# Altium integrated library Actel ProASIC3E.IntLib: 182 symbols (part 2 of 46)
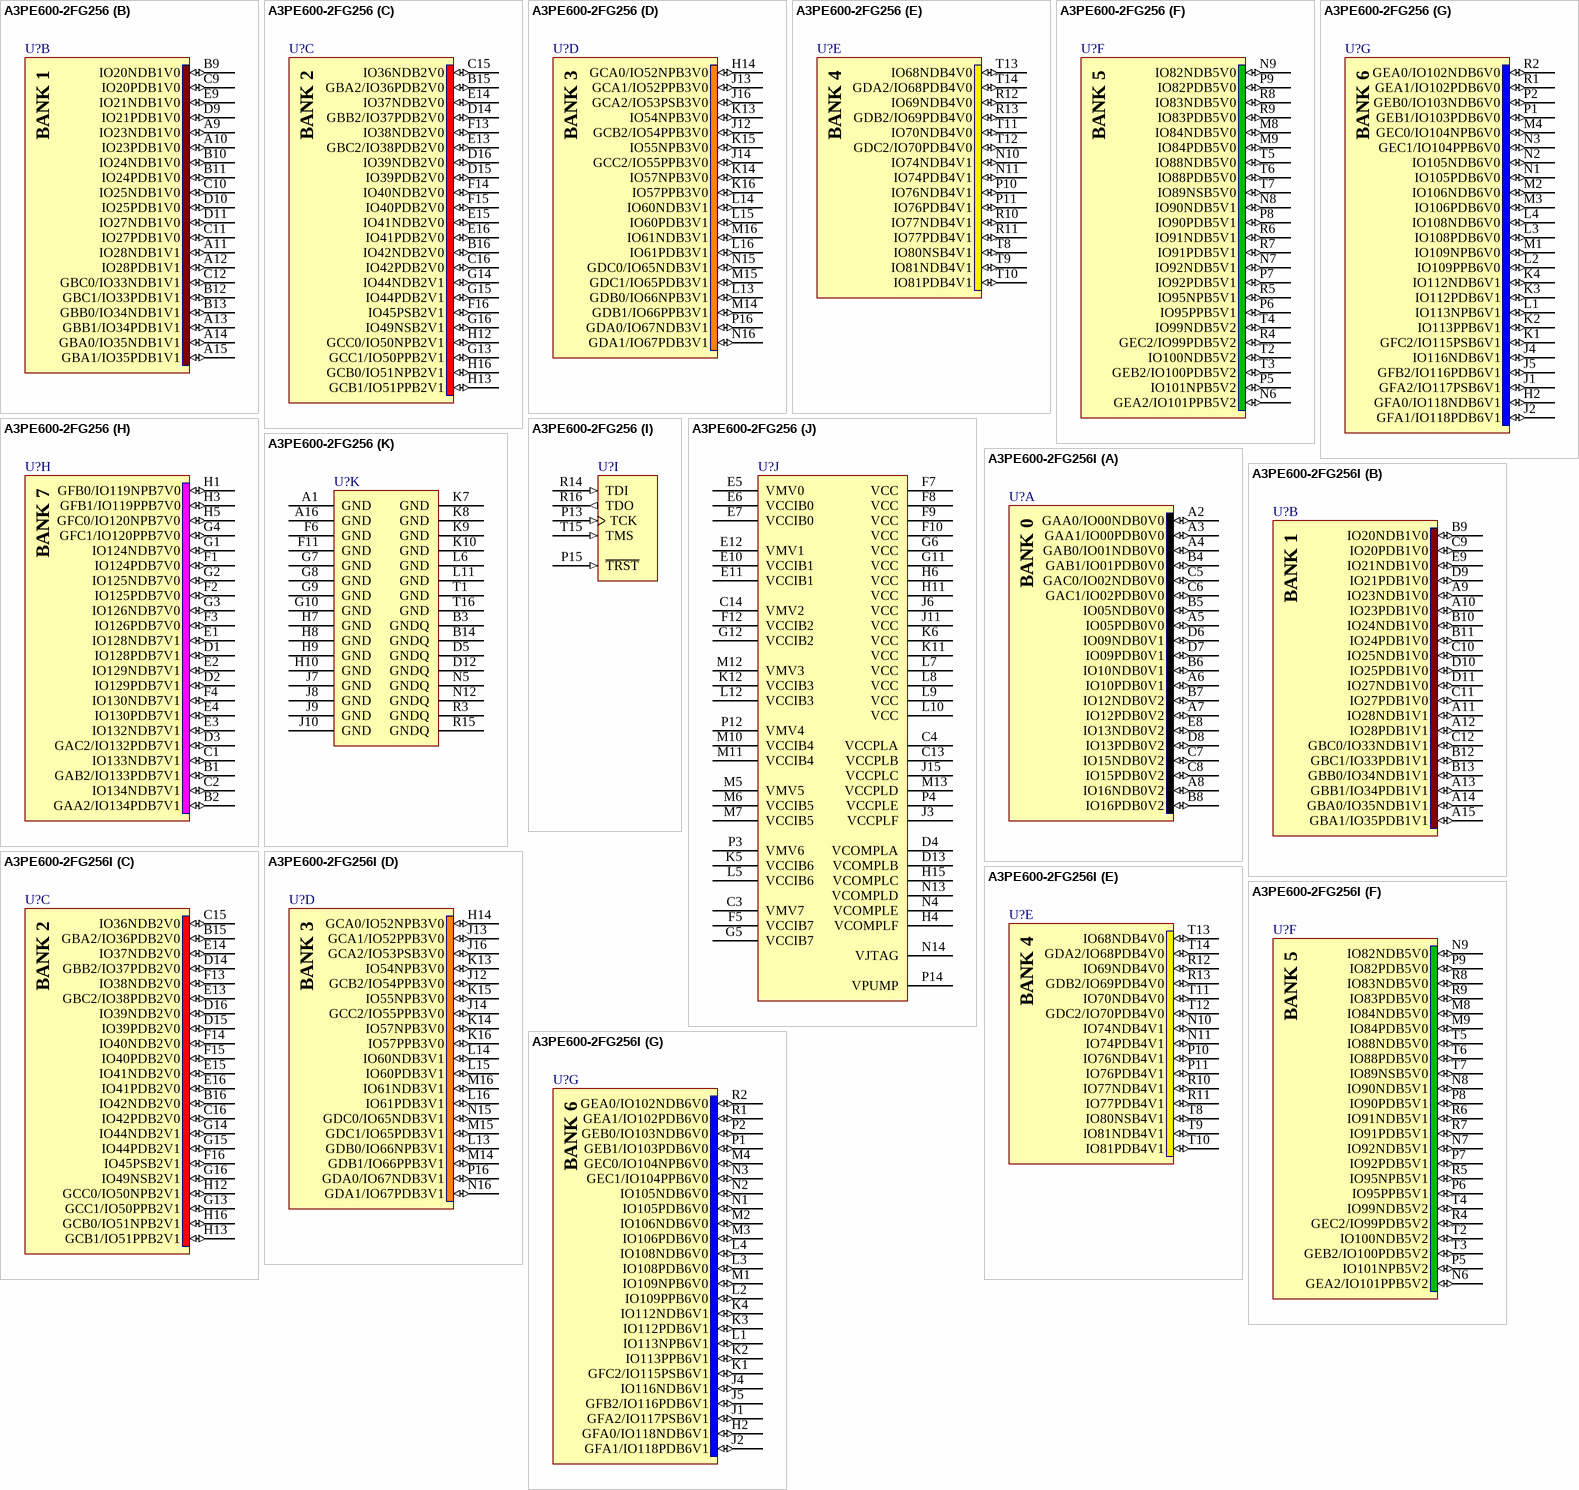
[diagram p106: symbols A3PE600-2FG256 to A3PE600-2FG256I]

## A3PE600-2FG256
designator U?
ProASIC3E Flash Family FPGA, 165 User IOs, 600K System Gates, 108 Kbits RAM, 1 Kbit FlashROM, 6 PLLs, 256-Ball FBGA, Commercial Grade; Published: 4-Mar-2005; LatestRevisionDate: 13-Apr-2006; LatestRevisionNote: IPC-7351 Footprint Added.; DatasheetVersion: ver1.1, Feb-2009; PackageVersion: v11.0, Feb-2009; PackageReference: FG256; Publisher: Altium Limited; PackageDescription: 256-Ball Fine Pitch Plastic Ball Grid Array (FG256); Code_JEDEC: MO-192-DAF-1; ComponentLink1Description: Manufacturer Link; ComponentLink1URL: http://www.actel.com/products/pa3/; ComponentLink2Description: Datasheet; ComponentLink2URL: http://www.actel.com/documents/PA3E_DS.pdf; ComponentLink3Description: Packaging Specification; ComponentLink3URL: http://www.actel.com/documents/PckgMechDrwngs.pdf
footprint FG256 (BGA, 256-Leads, Body 17x17mm, Pitch 1mm)
3D model A3PE600-FG256 (256-Ball Fine Pitch Plastic Ball Grid Array (FG256))
signal-integrity model A3PE600_FG256 (ProASIC3E)
part A pins: A2 GAA0/IO00NDB0V0 (io), A3 GAA1/IO00PDB0V0 (io), A4 GAB0/IO01NDB0V0 (io), A5 IO05PDB0V0 (io), A6 IO10PDB0V1 (io), A7 IO12PDB0V2 (io), A8 IO16NDB0V2 (io), B4 GAB1/IO01PDB0V0 (io), B5 IO05NDB0V0 (io), B6 IO10NDB0V1 (io), B7 IO12NDB0V2 (io), B8 IO16PDB0V2 (io), C5 GAC0/IO02NDB0V0 (io), C6 GAC1/IO02PDB0V0 (io), C7 IO15NDB0V2 (io), C8 IO15PDB0V2 (io), D6 IO09NDB0V1 (io), D7 IO09PDB0V1 (io), D8 IO13PDB0V2 (io), E8 IO13NDB0V2 (io)
part B pins: A9 IO23NDB1V0 (io), A10 IO23PDB1V0 (io), A11 IO28NDB1V1 (io), A12 IO28PDB1V1 (io), A13 GBB1/IO34PDB1V1 (io), A14 GBA0/IO35NDB1V1 (io), A15 GBA1/IO35PDB1V1 (io), B9 IO20NDB1V0 (io), B10 IO24NDB1V0 (io), B11 IO24PDB1V0 (io), B12 GBC1/IO33PDB1V1 (io), B13 GBB0/IO34NDB1V1 (io), C9 IO20PDB1V0 (io), C10 IO25NDB1V0 (io), C11 IO27PDB1V0 (io), C12 GBC0/IO33NDB1V1 (io), D9 IO21PDB1V0 (io), D10 IO25PDB1V0 (io), D11 IO27NDB1V0 (io), E9 IO21NDB1V0 (io)
part C pins: B15 GBA2/IO36PDB2V0 (io), B16 IO42NDB2V0 (io), C15 IO36NDB2V0 (io), C16 IO42PDB2V0 (io), D14 GBB2/IO37PDB2V0 (io), D15 IO39PDB2V0 (io), D16 IO39NDB2V0 (io), E13 GBC2/IO38PDB2V0 (io), E14 IO37NDB2V0 (io), E15 IO41NDB2V0 (io), E16 IO41PDB2V0 (io), F13 IO38NDB2V0 (io), F14 IO40NDB2V0 (io), F15 IO40PDB2V0 (io), F16 IO45PSB2V1 (io), G13 GCC1/IO50PPB2V1 (io), G14 IO44NDB2V1 (io), G15 IO44PDB2V1 (io), G16 IO49NSB2V1 (io), H12 GCC0/IO50NPB2V1 (io), H13 GCB1/IO51PPB2V1 (io), H16 GCB0/IO51NPB2V1 (io)
part D pins: H14 GCA0/IO52NPB3V0 (io), J12 GCB2/IO54PPB3V0 (io), J13 GCA1/IO52PPB3V0 (io), J14 GCC2/IO55PPB3V0 (io), J16 GCA2/IO53PSB3V0 (io), K13 IO54NPB3V0 (io), K14 IO57NPB3V0 (io), K15 IO55NPB3V0 (io), K16 IO57PPB3V0 (io), L13 GDB0/IO66NPB3V1 (io), L14 IO60NDB3V1 (io), L15 IO60PDB3V1 (io), L16 IO61PDB3V1 (io), M14 GDB1/IO66PPB3V1 (io), M15 GDC1/IO65PDB3V1 (io), M16 IO61NDB3V1 (io), N15 GDC0/IO65NDB3V1 (io), N16 GDA1/IO67PDB3V1 (io), P16 GDA0/IO67NDB3V1 (io)
part E pins: N10 IO74NDB4V1 (io), N11 IO74PDB4V1 (io), P10 IO76NDB4V1 (io), P11 IO76PDB4V1 (io), R10 IO77NDB4V1 (io), R11 IO77PDB4V1 (io), R12 IO69NDB4V0 (io), R13 GDB2/IO69PDB4V0 (io), T8 IO80NSB4V1 (io), T9 IO81NDB4V1 (io), T10 IO81PDB4V1 (io), T11 IO70NDB4V0 (io), T12 GDC2/IO70PDB4V0 (io), T13 IO68NDB4V0 (io), T14 GDA2/IO68PDB4V0 (io)
part F pins: M8 IO84NDB5V0 (io), M9 IO84PDB5V0 (io), N6 GEA2/IO101PPB5V2 (io), N7 IO92NDB5V1 (io), N8 IO90NDB5V1 (io), N9 IO82NDB5V0 (io), P5 IO101NPB5V2 (io), P6 IO95PPB5V1 (io), P7 IO92PDB5V1 (io), P8 IO90PDB5V1 (io), P9 IO82PDB5V0 (io), R4 GEC2/IO99PDB5V2 (io), R5 IO95NPB5V1 (io), R6 IO91NDB5V1 (io), R7 IO91PDB5V1 (io), R8 IO83NDB5V0 (io), R9 IO83PDB5V0 (io), T2 IO100NDB5V2 (io), T3 GEB2/IO100PDB5V2 (io), T4 IO99NDB5V2 (io), T5 IO88NDB5V0 (io), T6 IO88PDB5V0 (io), T7 IO89NSB5V0 (io)
part G pins: H2 GFA0/IO118NDB6V1 (io), J1 GFA2/IO117PSB6V1 (io), J2 GFA1/IO118PDB6V1 (io), J4 IO116NDB6V1 (io), J5 GFB2/IO116PDB6V1 (io), K1 GFC2/IO115PSB6V1 (io), K2 IO113PPB6V1 (io), K3 IO112PDB6V1 (io), K4 IO112NDB6V1 (io), L1 IO113NPB6V1 (io), L2 IO109PPB6V0 (io), L3 IO108PDB6V0 (io), L4 IO108NDB6V0 (io), M1 IO109NPB6V0 (io), M2 IO106NDB6V0 (io), M3 IO106PDB6V0 (io), M4 GEC0/IO104NPB6V0 (io), N1 IO105PDB6V0 (io), N2 IO105NDB6V0 (io), N3 GEC1/IO104PPB6V0 (io), P1 GEB1/IO103PDB6V0 (io), P2 GEB0/IO103NDB6V0 (io), R1 GEA1/IO102PDB6V0 (io), R2 GEA0/IO102NDB6V0 (io)
part H pins: B1 GAB2/IO133PDB7V1 (io), B2 GAA2/IO134PDB7V1 (io), C1 IO133NDB7V1 (io), C2 IO134NDB7V1 (io), D1 IO128PDB7V1 (io), D2 IO129PDB7V1 (io), D3 GAC2/IO132PDB7V1 (io), E1 IO128NDB7V1 (io), E2 IO129NDB7V1 (io), E3 IO132NDB7V1 (io), E4 IO130PDB7V1 (io), F1 IO124PDB7V0 (io), F2 IO125PDB7V0 (io), F3 IO126PDB7V0 (io), F4 IO130NDB7V1 (io), G1 IO124NDB7V0 (io), G2 IO125NDB7V0 (io), G3 IO126NDB7V0 (io), G4 GFC1/IO120PPB7V0 (io), H1 GFB0/IO119NPB7V0 (io), H3 GFB1/IO119PPB7V0 (io), H5 GFC0/IO120NPB7V0 (io)
part I pins: P13 TCK (in), P15 ~{TRST} (in), R14 TDI (in), R16 TDO (out), T15 TMS (in)
part J pins: C3 VMV7 (power), C4 VCCPLA (power), C13 VCCPLB (power), C14 VMV2 (power), D4 VCOMPLA (power), D13 VCOMPLB (power), E5 VMV0 (power), E6 VCCIB0 (power), E7 VCCIB0 (power), E10 VCCIB1 (power), E11 VCCIB1 (power), E12 VMV1 (power), F5 VCCIB7 (power), F7 VCC (power), F8 VCC (power), F9 VCC (power), F10 VCC (power), F12 VCCIB2 (power), G5 VCCIB7 (power), G6 VCC (power), G11 VCC (power), G12 VCCIB2 (power), H4 VCOMPLF (power), H6 VCC (power), H11 VCC (power), H15 VCOMPLC (power), J3 VCCPLF (power), J6 VCC (power), J11 VCC (power), J15 VCCPLC (power), K5 VCCIB6 (power), K6 VCC (power), K11 VCC (power), K12 VCCIB3 (power), L5 VCCIB6 (power), L7 VCC (power), L8 VCC (power), L9 VCC (power), L10 VCC (power), L12 VCCIB3 (power), M5 VMV5 (power), M6 VCCIB5 (power), M7 VCCIB5 (power), M10 VCCIB4 (power), M11 VCCIB4 (power), M12 VMV3 (power), M13 VCCPLD (power), N4 VCOMPLE (power), N13 VCOMPLD (power), N14 VJTAG (power), P3 VMV6 (power), P4 VCCPLE (power), P12 VMV4 (power), P14 VPUMP (power)
part K pins: A1 GND (power), A16 GND (power), B3 GNDQ (power), B14 GNDQ (power), D5 GNDQ (power), D12 GNDQ (power), F6 GND (power), F11 GND (power), G7 GND (power), G8 GND (power), G9 GND (power), G10 GND (power), H7 GND (power), H8 GND (power), H9 GND (power), H10 GND (power), J7 GND (power), J8 GND (power), J9 GND (power), J10 GND (power), K7 GND (power), K8 GND (power), K9 GND (power), K10 GND (power), L6 GND (power), L11 GND (power), N5 GNDQ (power), N12 GNDQ (power), R3 GNDQ (power), R15 GNDQ (power), T1 GND (power), T16 GND (power)
part A text: BANK 0
part B text: BANK 1
part C text: BANK 2
part D text: BANK 3
part E text: BANK 4
part F text: BANK 5
part G text: BANK 6
part H text: BANK 7

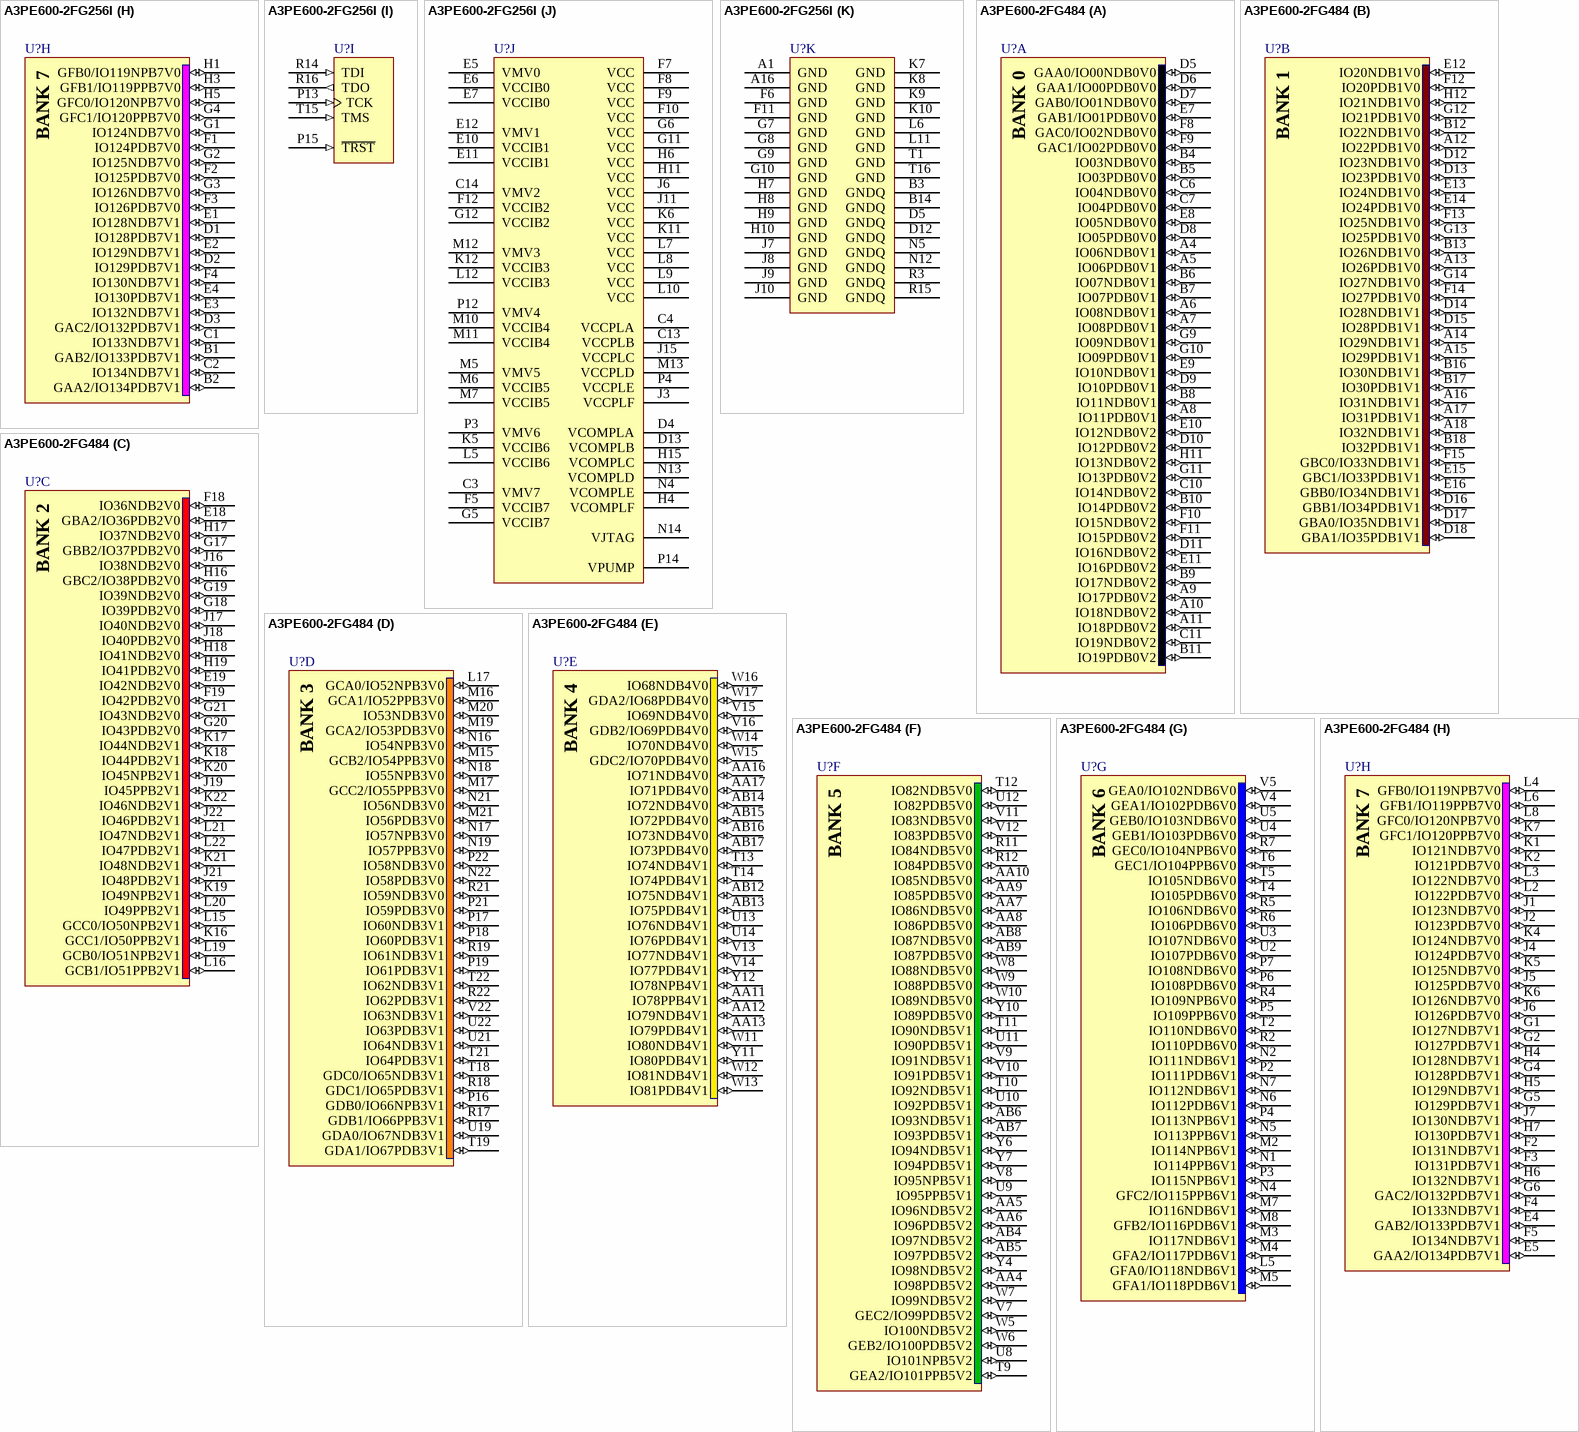
[diagram p6: symbols A3PE600-2FG256I to A3PE600-2FG484]